# Altium footprint library Diode_SMD.PcbLib: 19 footprints (part 1 of 2)
Each footprint in its own frame and in the unit in brackets; x right, y up, seen from the top. Pads: shape width x height; smd on the part's side, far side on the other; paste and mask are expansions set on the pad; w line width, h text height; cw(c..) or ccw(c..) is an arc to the next point about the centre after c.
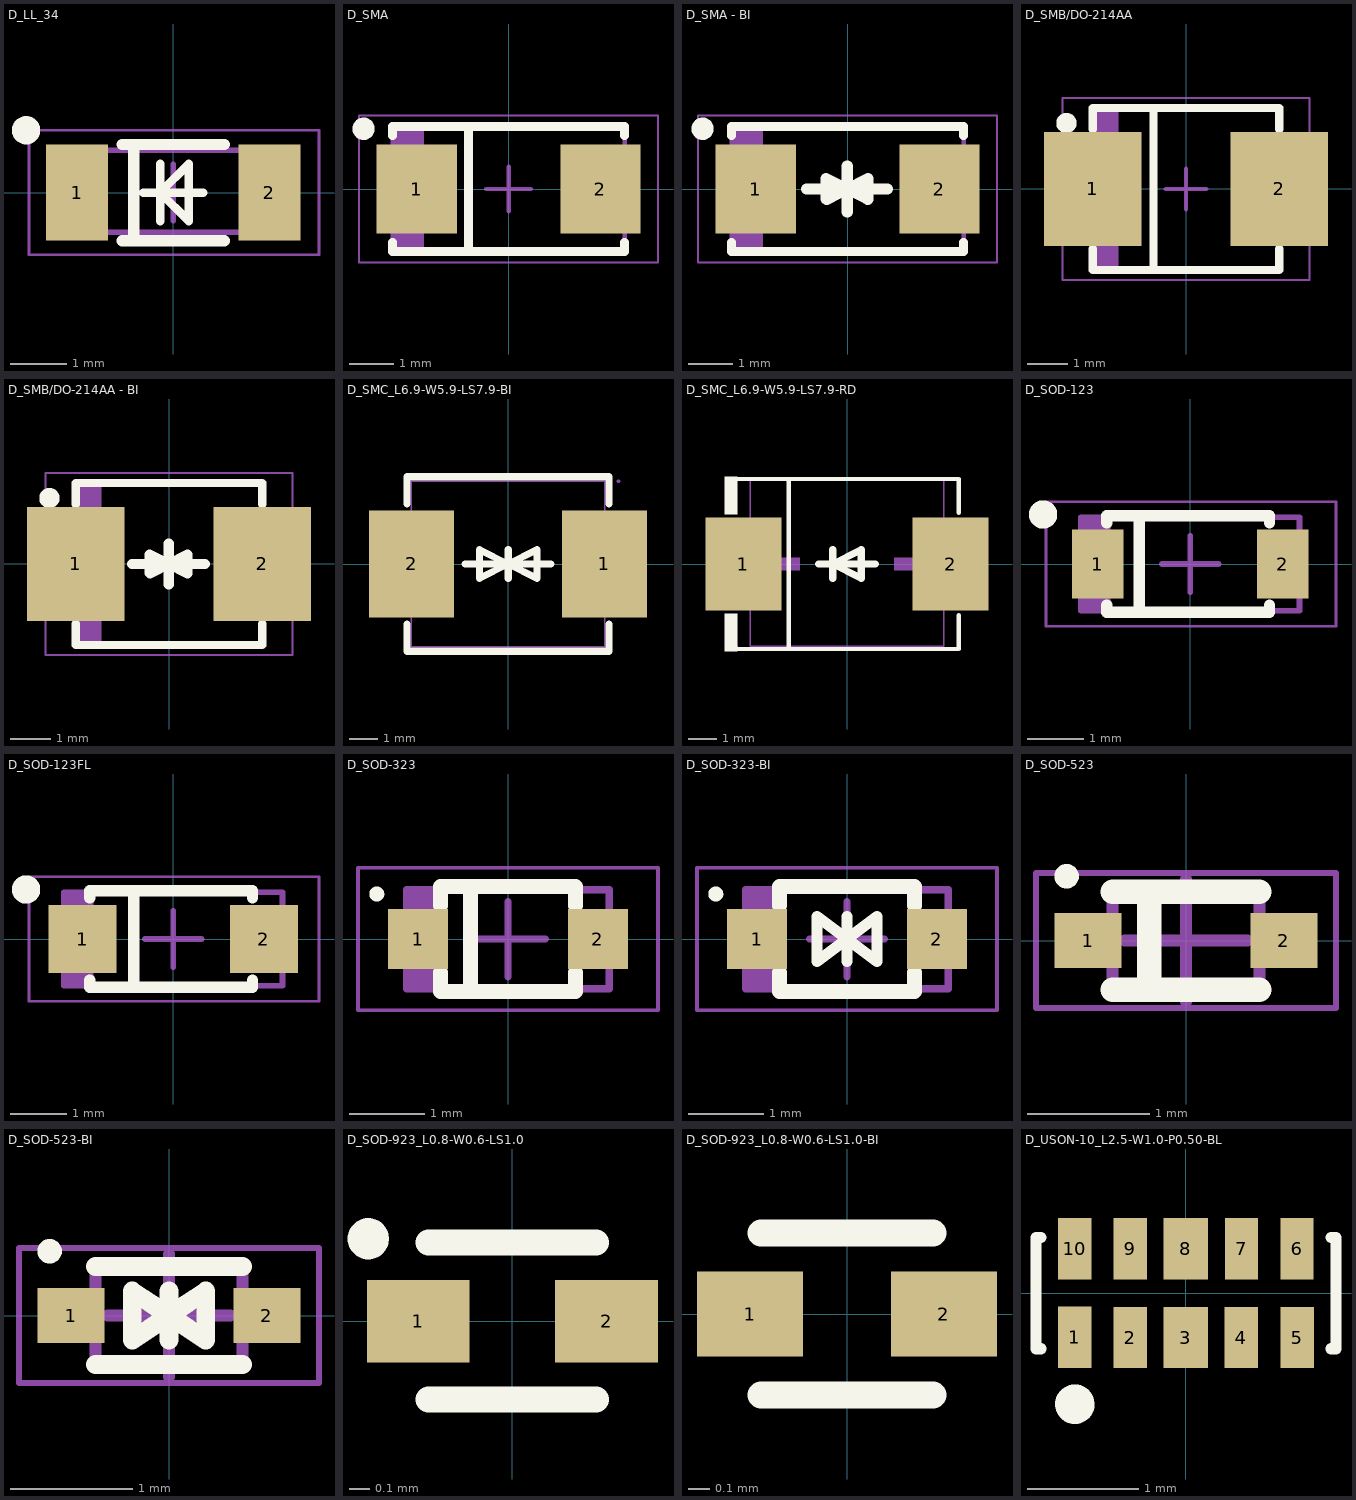
[diagram p0: the footprints below, top view; thin cyan lines are the x and y axes]

## D_LL_34 [mm] "Molded Diode, 2-Leads, Body 3.71x1.60mm, IPC Medium Density"
height 1.35
pads (2):
  rect 1.1x1.7 smd: 1(-1.7,0) 2(1.7,0)
Top Overlay:
  circle w0.25: c-2.6,1.1 r0.125
  lines w0.15: -0.531,0 0.531,0 ; -0.231,-0.508 -0.231,0.508 ; -0.231,-0.254 -0.231,0.254 ; -0.231,0 0.277,-0.508 0.277,0.508 -0.231,0
  lines w0.2: -0.9,-0.85 0.9,-0.85 ; -0.9,0.85 0.9,0.85 ; -0.7,-0.85 -0.7,0.85
Mechanical 13:
  rectangle: -1.7,-0.7 -1.181,0.75
  lines w0.1: -1.7,-0.7 1.7,-0.7 1.7,0.75 -1.7,0.75 -1.7,-0.7
Mechanical 15:
  lines w0.05: -2.55,-1.1 -2.55,1.1 2.575,1.1 2.575,-1.1 -2.55,-1.1
  lines w0.1: -0.5,0 0.5,0 ; 0,-0.5 0,0.5
3D body "D1.stp": height 1.5, standoff 0, extent -1.7,-0.75 1.701,0.75

## D_SMA [mm] "Molded Diode, 2-Leads, Body 5.00x2.60mm, IPC Medium Density"
height 2
pads (2):
  rect 1.8x2 smd: 1(-2.06,0) 2(2.06,0)
Top Overlay:
  circle w0.25: c-3.25,1.35 r0.125
  lines w0.2: -2.6,-1.2 -2.6,-1.4 2.6,-1.4 2.6,-1.2 ; -2.6,1.2 -2.6,1.4 2.6,1.4 2.6,1.2 ; -0.9,-1.4 -0.9,1.4
Mechanical 13:
  rectangle: -2.6,-1.4 -1.901,1.4
  lines w0.1: -2.6,-1.4 2.6,-1.4 2.6,1.4 -2.6,1.4 -2.6,-1.4
Mechanical 15:
  lines w0.05: -3.35,-1.65 3.35,-1.65 3.35,1.65 -3.35,1.65 -3.35,-1.65
  lines w0.1: -0.5,0 0.5,0 ; 0,-0.5 0,0.5
3D body "DIOM5026X20N.step": height 2, standoff 0, extent -2.82,-1.4 2.82,1.4

## D_SMA - BI [mm] "Molded Diode, 2-Leads, Body 5.00x2.60mm, IPC Medium Density"
height 2
pads (2):
  rect 1.8x2 smd: 1(-2.06,0) 2(2.06,0)
Top Overlay:
  circle w0.25: c-3.25,1.35 r0.125
  lines w0.2: -2.6,-1.2 -2.6,-1.4 2.6,-1.4 2.6,-1.2 ; -2.6,1.2 -2.6,1.4 2.6,1.4 2.6,1.2
  lines w0.254: -0.912,0 0.496,0 ; -0.508,0 0.888,0 ; -0.482,-0.216 -0.482,0.235 -0.012,0 ; -0.469,-0.228 -0.012,0 ; -0.012,-0.508 -0.012,0.508 -0.012,0 ; 0,0.508 0,-0.508 0,0 ; 0.455,-0.227 0,0 ; 0.457,-0.225 0.457,0.228 0,0
Mechanical 13:
  rectangle: -2.6,-1.4 -1.901,1.4
  lines w0.1: -2.6,-1.4 2.6,-1.4 2.6,1.4 -2.6,1.4 -2.6,-1.4
Mechanical 15:
  lines w0.05: -3.35,-1.65 3.35,-1.65 3.35,1.65 -3.35,1.65 -3.35,-1.65
  lines w0.1: -0.5,0 0.5,0 -0.5,0 ; 0,-0.5 0,0.5 0,-0.5
3D body "DIOM5026X20N.step": height 2, standoff 0, extent -2.82,-1.4 2.82,1.4

## D_SMB/DO-214AA [mm] "Molded Diode, 2-Leads, Body 4.31x3.62mm, IPC Medium Density"
height 2.5
pads (2):
  rect 2.4x2.8 smd: 1(-2.3,0) 2(2.3,0)
Top Overlay:
  circle w0.25: c-2.95,1.625 r0.125
  lines w0.2: -2.3,-1.475 -2.3,-2 2.3,-2 2.3,-1.475 ; -2.3,1.475 -2.3,2 2.3,2 2.3,1.475 ; -0.8,-2 -0.8,2
Mechanical 13:
  rectangle: -2.285,-1.97 -1.67,1.97
  lines w0.1: -2.285,-1.97 2.285,-1.97 2.285,1.97 -2.285,1.97 -2.285,-1.97
Mechanical 15:
  lines w0.05: -3.05,-2.25 3.05,-2.25 3.05,2.25 -3.05,2.25 -3.05,-2.25
  lines w0.1: -0.5,0 0.5,0 ; 0,-0.5 0,0.5
3D body "DIOM4336X25N.step": height 2.5, standoff 0, extent -2.505,-1.97 2.505,1.97

## D_SMB/DO-214AA - BI [mm] "Molded Diode, 2-Leads, Body 4.31x3.62mm, IPC Medium Density"
height 2.5
pads (2):
  rect 2.4x2.8 smd: 1(-2.3,0) 2(2.3,0)
Top Overlay:
  circle w0.25: c-2.95,1.625 r0.125
  lines w0.2: -2.3,-1.475 -2.3,-2 2.3,-2 2.3,-1.475 ; -2.3,1.475 -2.3,2 2.3,2 2.3,1.475
  lines w0.254: -0.912,0 0.496,0 ; -0.508,0 0.888,0 ; -0.482,-0.216 -0.482,0.235 -0.012,0 ; -0.469,-0.228 -0.012,0 ; -0.012,-0.508 -0.012,0.508 -0.012,0 ; 0,0.508 0,-0.508 0,0 ; 0.455,-0.227 0,0 ; 0.457,-0.225 0.457,0.228 0,0
Mechanical 13:
  rectangle: -2.285,-1.97 -1.67,1.97
  lines w0.1: -2.285,-1.97 2.285,-1.97 2.285,1.97 -2.285,1.97 -2.285,-1.97
Mechanical 15:
  lines w0.05: -3.05,-2.25 3.05,-2.25 3.05,2.25 -3.05,2.25 -3.05,-2.25
  lines w0.1: -0.5,0 0.5,0 ; 0,-0.5 0,0.5
3D body "DIOM4336X25N.step": height 2.5, standoff 0, extent -2.505,-1.97 2.505,1.97

## D_SMC_L6.9-W5.9-LS7.9-BI [mm]
pads (2):
  rect 3.03x3.82 smd: 1(3.435,0) 2(-3.435,0)
Top Overlay:
  lines w0.254: -3.6,-2.141 -3.6,-3.11 3.6,-3.11 3.6,-2.141 ; -3.6,2.141 -3.6,3.11 3.6,3.11 3.6,2.141 ; -1.524,0 0.508,0 ; -0.496,0 1.536,0 ; 0,-0.508 0,0.508 0,0 ; 0.012,0.508 0.012,-0.508 0.012,0 ; 0,0 -1.016,-0.508 -1.016,0.508 0,0 ; 0.012,0 1.028,-0.508 1.028,0.508 0.012,0
Mechanical 15:
  region: 4.004,2.95 4.004,2.975 3.969,3.01 3.919,3.01 3.884,2.975 3.884,2.95 3.884,2.925 3.919,2.89 3.969,2.89 4.004,2.925 4.004,2.95
  region: 2.804,1.525 3.944,1.525 3.944,-1.525 2.804,-1.525
  region: -3.947,1.525 -2.807,1.525 -2.807,-1.525 -3.947,-1.525
  lines w0.051: -3.45,-2.95 3.45,-2.95 3.45,2.95 -3.45,2.95 -3.45,-2.95
3D body "Unnamed-PCBModelSMC_L7.1-W6.2-LS8.1-FD.step": height 2.1, standoff 0, extent -4.034,-3 3.966,3

## D_SMC_L6.9-W5.9-LS7.9-RD [mm]
pads (2):
  rect 2.7x3.3 smd: 1(-3.686,0) 2(3.686,0)
Top Overlay:
  region: -3.9,-3.102 -3.9,-1.772 -4.357,-1.772 -4.357,-3.102
  region: -3.9,3.102 -3.9,1.772 -4.357,1.772 -4.357,3.102
  lines w0.152: -3.976,-3.026 3.976,-3.026 3.976,-1.823 ; -3.976,3.026 3.976,3.026 3.976,1.823 ; -2.069,-3.026 -2.069,3.026
  lines w0.254: -1.016,0 1.016,0 ; -0.508,0.508 -0.508,-0.508 -0.508,0 ; -0.508,0 0.508,0.508 0.508,-0.508 -0.508,0
Mechanical 6:
  region: 2.794,-1.475 2.794,1.475 2.351,1.475 2.351,-1.475
  region: 3.457,-0.221 3.457,0.221 1.687,0.221 1.687,-0.221
  region: -3.457,-0.221 -3.457,0.221 -1.687,0.221 -1.687,-0.221
Mechanical 15:
  region: 3.95,-1.5 3.95,1.5 2.7,1.5 2.7,-1.5
  region: -3.95,-1.5 -3.95,1.5 -2.7,1.5 -2.7,-1.5
  region: -3.89,-2.95 -3.891,-2.926 -3.926,-2.892 -3.974,-2.892 -4.009,-2.926 -4.01,-2.95 -4.009,-2.974 -3.974,-3.008 -3.926,-3.008 -3.891,-2.974 -3.89,-2.95
  lines w0.051: -3.45,-2.921 3.45,-2.921 3.45,2.979 -3.45,2.979 -3.45,-2.921
3D body "Unnamed-PCBModelSMC_L7.1-W6.2-LS8.1-FD.step": height 2.1, standoff 0, extent -3.966,-3 4.034,3

## D_SOD-123 [mm] "Molded Diode, 2-Leads, Body 3.71x1.60mm, IPC Medium Density"
height 1.35
pads (2):
  rect 0.91x1.22 smd: 1(-1.637,0) 2(1.637,0)
Top Overlay:
  circle w0.25: c-2.6,0.875 r0.125
  lines w0.2: -1.475,-0.725 -1.475,-0.85 1.4,-0.85 1.4,-0.725 ; -1.475,0.725 -1.475,0.85 1.4,0.85 1.4,0.725 ; -0.9,-0.85 -0.9,0.85
Mechanical 13:
  rectangle: -1.93,-0.825 -1.411,0.825
  lines w0.1: -1.93,-0.825 1.93,-0.825 1.93,0.825 -1.93,0.825 -1.93,-0.825
Mechanical 15:
  lines w0.05: -2.55,-1.1 -2.55,1.1 2.575,1.1 2.575,-1.1 -2.55,-1.1
  lines w0.1: -0.5,0 0.5,0 ; 0,-0.5 0,0.5
3D body "User Library-SOD3716X14.STEP": height 1.35, standoff 0, extent -1.85,-0.775 1.85,0.775

## D_SOD-123FL [mm] "Molded Diode, 2-Leads, Body 3.71x1.60mm, IPC Medium Density"
height 1.35
pads (2):
  rect 1.2x1.2 smd: 1(-1.6,0) 2(1.6,0)
Top Overlay:
  circle w0.25: c-2.6,0.875 r0.125
  lines w0.2: -1.475,-0.725 -1.475,-0.85 1.4,-0.85 1.4,-0.725 ; -1.475,0.725 -1.475,0.85 1.4,0.85 1.4,0.725 ; -0.7,-0.85 -0.7,0.85
Mechanical 13:
  rectangle: -1.93,-0.825 -1.411,0.825
  lines w0.1: -1.93,-0.825 -1.93,0.825 1.93,0.825 1.93,-0.825 -1.93,-0.825
Mechanical 15:
  lines w0.05: -2.55,-1.1 2.575,-1.1 2.575,1.1 -2.55,1.1 -2.55,-1.1
  lines w0.1: -0.5,0 0.5,0 ; 0,-0.5 0,0.5
3D body "User Library-SOD3716X14.STEP": height 1.35, standoff 0, extent -1.85,-0.775 1.85,0.775

## D_SOD-323 [mm] "Molded Diode, 2-Leads, Body 2.65x1.30mm, IPC Medium Density"
height 0.9
pads (2):
  rect 0.8x0.8 smd: 1(-1.2,0) 2(1.2,0)
Top Overlay:
  circle w0.1: c-1.75,0.6 r0.05
  lines w0.2: -0.9,-0.45 -0.9,-0.7 0.9,-0.7 0.9,-0.45 ; -0.9,0.45 -0.9,0.7 0.9,0.7 0.9,0.45 ; -0.5,-0.6 -0.5,0.7
Mechanical 13:
  rectangle: -1.35,-0.66 -0.987,0.66
  lines w0.1: -1.35,-0.66 1.35,-0.66 1.35,0.66 -1.35,0.66 -1.35,-0.66
Mechanical 15:
  lines w0.05: -2,-0.95 2,-0.95 2,0.95 -2,0.95 -2,-0.95
  lines w0.1: -0.5,0 0.5,0 ; 0,-0.5 0,0.5
3D body "User Library-SOD-323.STEP": height 1.1, standoff 0, extent -1.3,-0.675 1.3,0.675

## D_SOD-323-BI [mm] "Molded Diode, 2-Leads, Body 2.65x1.30mm, IPC Medium Density"
height 0.9
pads (2):
  rect 0.8x0.8 smd: 1(-1.2,0) 2(1.2,0)
Top Overlay:
  circle w0.1: c-1.75,0.6 r0.05
  lines w0.152: 0,-0.3 0,0.3 ; -0.4,-0.3 -0.4,0.3 0.4,-0.3 0.4,0.3 -0.4,-0.3
  lines w0.2: -0.9,-0.45 -0.9,-0.7 0.9,-0.7 0.9,-0.45 ; -0.9,0.45 -0.9,0.7 0.9,0.7 0.9,0.45
Mechanical 13:
  rectangle: -1.35,-0.66 -0.987,0.66
  lines w0.1: -1.35,-0.66 1.35,-0.66 1.35,0.66 -1.35,0.66 -1.35,-0.66
Mechanical 15:
  lines w0.05: -2,-0.95 2,-0.95 2,0.95 -2,0.95 -2,-0.95
  lines w0.1: -0.5,0 0.5,0 ; 0,-0.5 0,0.5
3D body "User Library-SOD-323.STEP": height 1.1, standoff 0, extent -1.3,-0.675 1.3,0.675

## D_SOD-523 [mm] "SODFL, 2-Leads, Body 0.80x1.60mm, IPC Medium Density"
height 0.6
pads (2):
  rect 0.55x0.45 smd: 1(-0.8,0) 2(0.8,0)
Top Overlay:
  circle w0.1: c-0.975,0.525 r0.05
  lines w0.2: -0.6,-0.4 0.6,-0.4 ; -0.6,0.4 0.6,0.4 ; -0.3,-0.4 -0.3,0.4
Mechanical 13:
  lines w0.1: -0.6,-0.4 -0.6,0.4 0.6,0.4 0.6,-0.4 -0.6,-0.4
Mechanical 15:
  lines w0.05: -1.225,-0.55 -1.225,0.55 1.225,0.55 1.225,-0.55 -1.225,-0.55
  lines w0.1: -0.5,0 0.5,0 ; 0,-0.5 0,0.5
3D body "SODFL160X60-2N.step": height 0.6, standoff 0, extent -0.8,-0.4 0.8,0.4

## D_SOD-523-BI [mm] "SODFL, 2-Leads, Body 0.80x1.60mm, IPC Medium Density"
height 0.6
pads (2):
  rect 0.55x0.45 smd: 1(-0.8,0) 2(0.8,0)
Top Overlay:
  circle w0.1: c-0.975,0.525 r0.05
  lines w0.152: -0.6,-0.4 0.6,-0.4 ; -0.6,0.4 0.6,0.4 ; 0,-0.2 0,0.2 0,0 ; -0.3,0.2 -0.3,-0.2 0,0 ; -0.3,0.2 0,0 ; -0.3,0.2 0,0 ; 0,0 0.3,0.2 0.3,-0.2 0,0
Mechanical 13:
  lines w0.1: -0.6,-0.4 0.6,-0.4 0.6,0.4 -0.6,0.4 -0.6,-0.4
Mechanical 15:
  lines w0.05: -1.225,-0.55 1.225,-0.55 1.225,0.55 -1.225,0.55 -1.225,-0.55
  lines w0.1: -0.5,0 0.5,0 ; 0,-0.5 0,0.5
3D body "SODFL160X60-2N.step": height 0.6, standoff 0, extent -0.8,-0.4 0.8,0.4

## D_SOD-923_L0.8-W0.6-LS1.0 [mil]
pads (2):
  rect 19.68x15.74 smd: 1(-18,0) 2(18,0)
Top Overlay:
  circle w3.94: c-27.56,15.75 r1.97
  lines w5: -16,-15 16,-15 ; -16,15 16,15
3D body "DFN65P100X45-2M.step": height 17.72, standoff -0.13, extent -20.67,-12.8 20.67,12.79

## D_SOD-923_L0.8-W0.6-LS1.0-BI [mil]
pads (2):
  rect 19.68x15.74 smd: 1(-18,0) 2(18,0)
Top Overlay:
  lines w5: -16,-15 16,-15 ; -16,15 16,15
3D body "DFN65P100X45-2M.step": height 17.72, standoff -0.13, extent -20.67,-12.8 20.67,12.79

## D_USON-10_L2.5-W1.0-P0.50-BL [mm]
pads (10):
  rect 0.3x0.55 smd: 1(-1.001,-0.398) 2(-0.501,-0.4) 4(0.499,-0.4) 5(1.001,-0.4) 6(0.999,0.4) 7(0.5,0.4) 9(-0.5,0.4) 10(-1.001,0.4)
  rect 0.4x0.55 smd: 3(-0.002,-0.4) 8(-0.001,0.4)
Top Overlay:
  lines w0.102: -1.306,-0.5 -1.35,-0.5 -1.35,0.5 -1.306,0.5 ; 1.304,0.5 1.35,0.5 1.35,-0.5 1.305,-0.5
  lines w0.254: -0.955,-0.977 ccw(c-1,-1) -0.949,-1
3D body "3D_PCB1_2022-04-17.stp": height 0.61, standoff 0, extent -1.25,-0.51 1.25,0.51